# EAGLE library part AD7734 (library Particulates)
4 Channel 24-bit ∑-∆ ADC
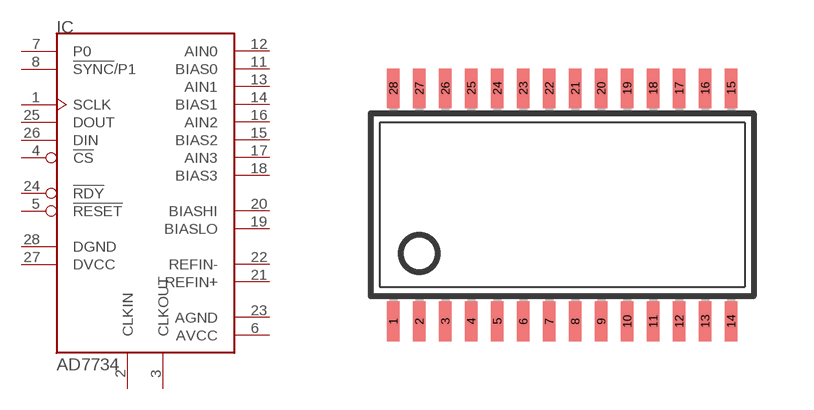
[diagram p2: symbol with the pads of TSSOP28; footprint TSSOP28]

Designator prefix IC

## AD7734TSSOP28  [TSSOP28]
1  SCLK
2  CLKIN
3  CLKOUT
4  !CS!
5  !RESET!
6  AVCC  pwr
7  P0
8  !SYNC!/P1
11  BIAS0
12  AIN0  in
13  AIN1  in
14  BIAS1
15  BIAS2
16  AIN2  in
17  AIN3  in
18  BIAS3
19  BIASLO  in
20  BIASHI  in
21  REFIN+  in
22  REFIN-  in
23  AGND  pwr
24  !RDY!
25  DOUT
26  DIN
27  DVCC  pwr
28  DGND  pwr

## Footprint TSSOP28 (pad centres in mm)
Thin Shrink Small Outline Plastic 28 MAX3223-MAX3243.pdf
smd 0.305 x 0.991: 1 -4.225,-2.918; 2 -3.575,-2.918; 3 -2.925,-2.918; 4 -2.275,-2.918; 5 -1.625,-2.918; 6 -0.975,-2.918; 7 -0.325,-2.918; 8 0.325,-2.918; 9 0.975,-2.918; 10 1.625,-2.918; 11 2.275,-2.918; 12 2.925,-2.918; 13 3.575,-2.918; 14 4.225,-2.918; 15 4.225,2.918; 16 3.575,2.918; 17 2.925,2.918; 18 2.275,2.918; 19 1.625,2.918; 20 0.975,2.918; 21 0.325,2.918; 22 -0.325,2.918; 23 -0.975,2.918; 24 -1.625,2.918; 25 -2.275,2.918; 26 -2.925,2.918; 27 -3.575,2.918; 28 -4.225,2.918